# Altium integrated library halcyxn_integratedlibrary.IntLib: 157 symbols (part 2 of 7)
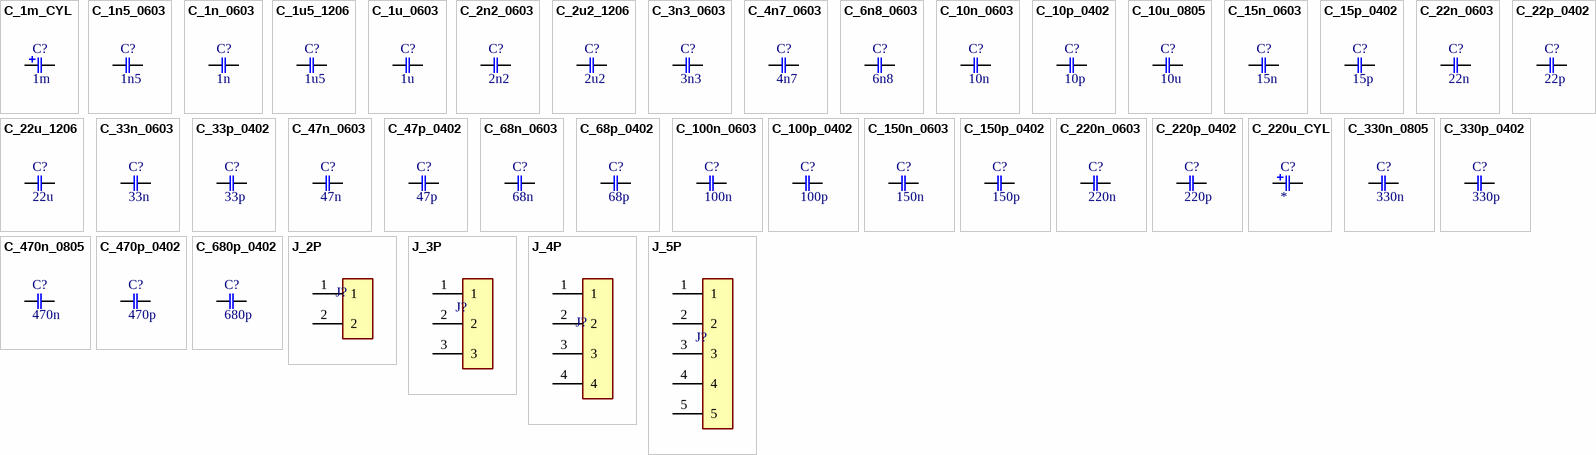
[diagram p4: symbols C_1m_CYL to J_5P]

## C_47p_0402
designator C?, comment 47p
Ceramic Capacitor, Multilayer, Ceramic, 50V, 5% +Tol, 5% -Tol, C0G, 30ppm/Cel TC, 0.000047uF, Surface Mount, 0402; Manufacturer: Murata; Manufacturer Part Number: GCM1555C1H470JA16J; Value: 47pF; Multilayer: Yes; Reference Standard: AEC-Q200; Supplier: Digikey; Supplier Part Number: 490-17752-1-ND; RoHS: Yes; Category: Ceramic Capacitors; Stock: 394056; Pricing: 1=0.1, 10=0.026, 50=0.0178, 100=0.0153, 500=0.01094, 1000=0.00958, 2500=0.00815, 5000=0.00728 (USD); Mounting Technology: Surface Mount; Pins: 2; Dielectric Material: Ceramic; Package Shape: Rectangular; Case/Package: 0402; Terminal Finish: Nickel; Min Operating Temperature: -55°C; Max Operating Temperature: 125°C; JESD-609 Code: e3; Capacitor Type: Ceramic; Tolerance  (fill in as +-): 5%; Package Style: SMTMeter; Packaging: Tape and Reel; Tolerance (fill in as +-): 5%; Rated DC Voltage (URdc): 50V; Temperature Characteristics Code: C0G; Termination: Wraparound; Length: 1mm; Width: 0.5mm; Height: 0.55mm; Reach SVHC Compliant: Yes; RoHS Compliant: Yes; ComponentLink1URL: https://datasheet.ciiva.com:443/pdfs/VipMasterIC/IC/MURE/MURE-S-A0004370842/MURE-S-A0004372084-1.pdf?src-supplier=IHS+Markit; ComponentLink1Description: https://datasheet.ciiva.com:443/pdfs/VipMasterIC/IC/MURE/MURE-S-A0004370842/MURE-S-A0004372084-1.pdf?src-supplier=IHS+Markit; ComponentLink2URL: http://www.mouser.com/ds/2/281/c03e-806517.pdf?src-supplier=Mouser; ComponentLink2Description: http://www.mouser.com/ds/2/281/c03e-806517.pdf?src-supplier=Mouser; ComponentLink3URL: http://www.murata.com/~/media/webrenewal/support/library/catalog/products/capacitor/mlcc/c03e.ashx?src-supplier=Digikey; ComponentLink3Description: http://www.murata.com/~/media/webrenewal/support/library/catalog/products/capacitor/mlcc/c03e.ashx?src-supplier=Digikey; ComponentLink4URL: http://psearch.en.murata.com/capacitor/product/GCM1555C1H470JA16%23.pdf?src-supplier=Avnet; ComponentLink4Description: http://psearch.en.murata.com/capacitor/product/GCM1555C1H470JA16%23.pdf?src-supplier=Avnet; ComponentLink5URL: https://search.murata.co.jp/Ceramy/image/img/A01X/G101/ENG/GCM1555C1H470JA16-01.pdf?src-supplier=Digikey; ComponentLink5Description: https://search.murata.co.jp/Ceramy/image/img/A01X/G101/ENG/GCM1555C1H470JA16-01.pdf?src-supplier=Digikey
footprint C_0402
pins: 1, 2

## C_68n_0603
designator C?, comment 68n
Ceramic Capacitor, Multilayer, Ceramic, 50V, 10% +Tol, 10% -Tol, X7R, 15% TC, 0.068uF, Surface Mount, 0603; Manufacturer: Murata; Manufacturer Part Number: GCM188R71H683KA57D; Value: 68nF; Multilayer: Yes; Reference Standard: AEC-Q200; Supplier: Digikey; Supplier Part Number: 490-8027-1-ND; RoHS: Yes; Category: Ceramic Capacitors; Stock: 276251; Pricing: 1=0.19, 10=0.11, 50=0.0782, 100=0.0683, 500=0.05172, 1000=0.04655 (USD); Mounting Technology: Surface Mount; Pins: 2; Dielectric Material: Ceramic; Package Shape: Rectangular; Case/Package: 0603; Terminal Finish: Nickel; Min Operating Temperature: -55°C; Max Operating Temperature: 125°C; JESD-609 Code: e3; Capacitor Type: Ceramic; Tolerance  (fill in as +-): 10%; Package Style: SMTMeter; Packaging: Tape and Reel; Tolerance (fill in as +-): 10%; Rated DC Voltage (URdc): 50V; Temperature Characteristics Code: X7R; Termination: Wraparound; Length: 1.6mm; Width: 0.8mm; Height: 0.9mm; Reach SVHC Compliant: Yes; RoHS Compliant: Yes; ComponentLink1URL: https://datasheet.ciiva.com:443/pdfs/VipMasterIC/IC/MURE/MURE-S-A0004362469/MURE-S-A0004362886-1.pdf?src-supplier=IHS+Markit; ComponentLink1Description: https://datasheet.ciiva.com:443/pdfs/VipMasterIC/IC/MURE/MURE-S-A0004362469/MURE-S-A0004362886-1.pdf?src-supplier=IHS+Markit; ComponentLink2URL: https://datasheet.ciiva.com/29542/s0717e-29542427.pdf?src-supplier=Digikey; ComponentLink2Description: https://datasheet.ciiva.com/29542/s0717e-29542427.pdf?src-supplier=Digikey; ComponentLink3URL: https://datasheet.ciiva.com/29542/s0717e-29542428.pdf?src-supplier=Digikey; ComponentLink3Description: https://datasheet.ciiva.com/29542/s0717e-29542428.pdf?src-supplier=Digikey; ComponentLink4URL: https://datasheet.ciiva.com/29542/s0717e-29542429.pdf?src-supplier=Digikey; ComponentLink4Description: https://datasheet.ciiva.com/29542/s0717e-29542429.pdf?src-supplier=Digikey
footprint C_0603
pins: 1, 2

## C_68p_0402
designator C?, comment 68p
Ceramic Capacitor, Multilayer, Ceramic, 50V, 5% +Tol, 5% -Tol, C0G, 30ppm/Cel TC, 0.000068uF, Surface Mount, 0402; Manufacturer: Murata; Manufacturer Part Number: GCM1555C1H680JA16J; Value: 68pF; Multilayer: Yes; Reference Standard: AEC-Q200; Supplier: Digikey; Supplier Part Number: 490-GCM1555C1H680JA16JCT-ND; RoHS: Yes; Category: Ceramic Capacitors; Stock: 101713; Pricing: 1=0.1, 10=0.034, 50=0.0232, 100=0.0198, 500=0.0141, 1000=0.01234, 2500=0.01046, 5000=0.00933 (USD); Mounting Technology: Surface Mount; Pins: 2; Dielectric Material: Ceramic; Package Shape: Rectangular; Case/Package: 0402; Terminal Finish: Nickel; Min Operating Temperature: -55°C; Max Operating Temperature: 125°C; JESD-609 Code: e3; Capacitor Type: Ceramic; Tolerance  (fill in as +-): 5%; Package Style: SMTMeter; Packaging: Tape and Reel; Tolerance (fill in as +-): 5%; Rated DC Voltage (URdc): 50V; Temperature Characteristics Code: C0G; Termination: Wraparound; Length: 1mm; Width: 0.5mm; Height: 0.55mm; Reach SVHC Compliant: Yes; RoHS Compliant: Yes; ComponentLink1URL: https://datasheet.ciiva.com:443/pdfs/VipMasterIC/IC/MURE/MURE-S-A0004370842/MURE-S-A0004372568-1.pdf?src-supplier=IHS+Markit; ComponentLink1Description: https://datasheet.ciiva.com:443/pdfs/VipMasterIC/IC/MURE/MURE-S-A0004370842/MURE-S-A0004372568-1.pdf?src-supplier=IHS+Markit; ComponentLink2URL: http://search.murata.co.jp/Ceramy/image/img/A01X/partnumbering_e_02.pdf?src-supplier=Digikey; ComponentLink2Description: http://search.murata.co.jp/Ceramy/image/img/A01X/partnumbering_e_02.pdf?src-supplier=Digikey
footprint C_0402
pins: 1, 2

## C_100n_0603
designator C?, comment 100n
Ceramic Capacitor, Multilayer, Ceramic, 50V, 10% +Tol, 10% -Tol, X7R, 15% TC, 0.1uF, Surface Mount, 0603; Manufacturer: Murata; Manufacturer Part Number: GCM188R71H104KA57D; Value: 100nF; Multilayer: Yes; Reference Standard: AEC-Q200; Supplier: Digikey; Supplier Part Number: 490-4779-1-ND; RoHS: Yes; Category: Ceramic Capacitors; Stock: 8963712; Pricing: 1=0.27, 10=0.155, 50=0.1104, 100=0.0965, 500=0.07296, 1000=0.06563 (USD); Mounting Technology: Surface Mount; Pins: 2; Dielectric Material: Ceramic; Package Shape: Rectangular; Case/Package: 0603; Terminal Finish: Nickel; Min Operating Temperature: -55°C; Max Operating Temperature: 125°C; JESD-609 Code: e3; Capacitor Type: Ceramic; Tolerance  (fill in as +-): 10%; Package Style: SMTMeter; Packaging: Tape and Reel; Tolerance (fill in as +-): 10%; Rated DC Voltage (URdc): 50V; Temperature Characteristics Code: X7R; Termination: Wraparound; Length: 1.6mm; Width: 0.8mm; Height: 0.9mm; Reach SVHC Compliant: Yes; RoHS Compliant: Yes; ComponentLink1URL: https://psearch.en.murata.com:443/capacitor/product/GCM188R71H104KA57%23.pdf?src-supplier=IHS+Markit; ComponentLink1Description: https://psearch.en.murata.com:443/capacitor/product/GCM188R71H104KA57%23.pdf?src-supplier=IHS+Markit; ComponentLink2URL: https://datasheet.ciiva.com/133/product-133574.pdf?src-supplier=Digikey; ComponentLink2Description: https://datasheet.ciiva.com/133/product-133574.pdf?src-supplier=Digikey; ComponentLink3URL: https://datasheet.ciiva.com/133/product-133575.pdf?src-supplier=Digikey; ComponentLink3Description: https://datasheet.ciiva.com/133/product-133575.pdf?src-supplier=Digikey; ComponentLink4URL: https://datasheet.ciiva.com/11786/0900766b80ef92d0-11786863.pdf?src-supplier=Rs; ComponentLink4Description: https://datasheet.ciiva.com/11786/0900766b80ef92d0-11786863.pdf?src-supplier=Rs; ComponentLink5URL: https://datasheet.ciiva.com/18183/getdatasheetpartid-98693-18183626.pdf?src-supplier=Verical; ComponentLink5Description: https://datasheet.ciiva.com/18183/getdatasheetpartid-98693-18183626.pdf?src-supplier=Verical; ComponentLink6URL: https://datasheet.ciiva.com/133/product-133573.pdf?src-supplier=Digikey; ComponentLink6Description: https://datasheet.ciiva.com/133/product-133573.pdf?src-supplier=Digikey; ComponentLink7URL: https://datasheet.ciiva.com/2989/product-2989242.pdf?src-supplier=Avnet; ComponentLink7Description: https://datasheet.ciiva.com/2989/product-2989242.pdf?src-supplier=Avnet; ComponentLink8URL: https://datasheet.ciiva.com/16497/product-16497247.pdf?src-supplier=Future+Electronics; ComponentLink8Description: https://datasheet.ciiva.com/16497/product-16497247.pdf?src-supplier=Future+Electronics
footprint C_0603
pins: 1, 2

## C_100p_0402
designator C?, comment 100p
Ceramic Capacitor, Multilayer, Ceramic, 50V, 5% +Tol, 5% -Tol, C0G, 30ppm/Cel TC, 0.0001uF, Surface Mount, 0402; Manufacturer: Murata; Manufacturer Part Number: GCM1555C1H101JA16J; Value: 100pF; Multilayer: Yes; Reference Standard: AEC-Q200; Supplier: Digikey; Supplier Part Number: 490-GCM1555C1H101JA16JCT-ND; RoHS: Yes; Category: Ceramic Capacitors; Stock: 465122; Pricing: 1=0.1, 10=0.034, 50=0.0232, 100=0.0198, 500=0.0141, 1000=0.01234, 2500=0.01046, 5000=0.00933 (USD); Mounting Technology: Surface Mount; Pins: 2; Dielectric Material: Ceramic; Package Shape: Rectangular; Case/Package: 0402; Terminal Finish: Nickel; Min Operating Temperature: -55°C; Max Operating Temperature: 125°C; JESD-609 Code: e3; Capacitor Type: Ceramic; Tolerance  (fill in as +-): 5%; Package Style: SMTMeter; Packaging: Tape and Reel; Tolerance (fill in as +-): 5%; Rated DC Voltage (URdc): 50V; Temperature Characteristics Code: C0G; Termination: Wraparound; Length: 1mm; Width: 0.5mm; Height: 0.55mm; Reach SVHC Compliant: Yes; RoHS Compliant: Yes; ComponentLink1URL: https://datasheet.ciiva.com:443/pdfs/VipMasterIC/IC/MURE/MURE-S-A0004370842/MURE-S-A0004372292-1.pdf?src-supplier=IHS+Markit; ComponentLink1Description: https://datasheet.ciiva.com:443/pdfs/VipMasterIC/IC/MURE/MURE-S-A0004370842/MURE-S-A0004372292-1.pdf?src-supplier=IHS+Markit; ComponentLink2URL: http://www.mouser.com/ds/2/281/c03e-806517.pdf?src-supplier=Mouser; ComponentLink2Description: http://www.mouser.com/ds/2/281/c03e-806517.pdf?src-supplier=Mouser; ComponentLink3URL: https://datasheet.octopart.com/GCM1555C1H101JA16J-Murata-datasheet-86813703.pdf?src-supplier=Future+Electronics; ComponentLink3Description: https://datasheet.octopart.com/GCM1555C1H101JA16J-Murata-datasheet-86813703.pdf?src-supplier=Future+Electronics; ComponentLink4URL: http://psearch.en.murata.com/capacitor/product/GCM1555C1H101JA16%23.pdf?src-supplier=Avnet; ComponentLink4Description: http://psearch.en.murata.com/capacitor/product/GCM1555C1H101JA16%23.pdf?src-supplier=Avnet; ComponentLink5URL: http://www.murata.com/~/media/webrenewal/support/library/catalog/products/capacitor/mlcc/c03e.ashx?src-supplier=Digikey; ComponentLink5Description: http://www.murata.com/~/media/webrenewal/support/library/catalog/products/capacitor/mlcc/c03e.ashx?src-supplier=Digikey
footprint C_0402
pins: 1, 2

## C_150n_0603
designator C?, comment 150n
Ceramic Capacitor, Multilayer, Ceramic, 50V, 10% +Tol, 10% -Tol, X7R, 15% TC, 0.15uF, Surface Mount, 0603; Manufacturer: Murata; Manufacturer Part Number: GCM188R71H154KA64D; Value: 150nF; Multilayer: Yes; Reference Standard: AEC-Q200; Supplier: Digikey; Supplier Part Number: 490-11960-1-ND; RoHS: Yes; Category: Ceramic Capacitors; Stock: 32537; Pricing: 1=0.19, 10=0.106, 50=0.0742, 100=0.0645, 500=0.048, 1000=0.04286 (USD); Mounting Technology: Surface Mount; Pins: 2; Dielectric Material: Ceramic; Package Shape: Rectangular; Case/Package: 0603; Terminal Finish: Nickel; Min Operating Temperature: -55°C; Max Operating Temperature: 125°C; JESD-609 Code: e3; Capacitor Type: Ceramic; Tolerance  (fill in as +-): 10%; Package Style: SMTMeter; Packaging: Tape and Reel; Tolerance (fill in as +-): 10%; Rated DC Voltage (URdc): 50V; Temperature Characteristics Code: X7R; Termination: Wraparound; Length: 1.6mm; Width: 0.8mm; Height: 0.9mm; Reach SVHC Compliant: Yes; RoHS Compliant: Yes; ComponentLink1URL: https://datasheet.ciiva.com:443/pdfs/VipMasterIC/IC/MURE/MURE-S-A0008911298/MURE-S-A0008911336-1.pdf?src-supplier=IHS+Markit; ComponentLink1Description: https://datasheet.ciiva.com:443/pdfs/VipMasterIC/IC/MURE/MURE-S-A0008911298/MURE-S-A0008911336-1.pdf?src-supplier=IHS+Markit; ComponentLink2URL: http://www.farnell.com/datasheets/2048405.pdf?src-supplier=Farnell; ComponentLink2Description: http://www.farnell.com/datasheets/2048405.pdf?src-supplier=Farnell; ComponentLink3URL: http://www.mouser.com/ds/2/281/c03e-806517.pdf?src-supplier=Mouser; ComponentLink3Description: http://www.mouser.com/ds/2/281/c03e-806517.pdf?src-supplier=Mouser; ComponentLink4URL: http://psearch.murata.com/capacitor/product/GCM188R71H154KA64%23.pdf?src-supplier=Avnet; ComponentLink4Description: http://psearch.murata.com/capacitor/product/GCM188R71H154KA64%23.pdf?src-supplier=Avnet; ComponentLink5URL: http://www.farnell.com/datasheets/1666664.pdf?src-supplier=Element14; ComponentLink5Description: http://www.farnell.com/datasheets/1666664.pdf?src-supplier=Element14; ComponentLink6URL: http://www.farnell.com/datasheets/2048405.pdf?src-supplier=Element14; ComponentLink6Description: http://www.farnell.com/datasheets/2048405.pdf?src-supplier=Element14; ComponentLink7URL: https://datasheet.octopart.com/GCM188R71H154KA64D-Murata-datasheet-149522680.pdf?src-supplier=Newark; ComponentLink7Description: https://datasheet.octopart.com/GCM188R71H154KA64D-Murata-datasheet-149522680.pdf?src-supplier=Newark; ComponentLink8URL: https://datasheet.octopart.com/GCM188R71H154KA64D-Murata-datasheet-12559435.pdf?src-supplier=Element14; ComponentLink8Description: https://datasheet.octopart.com/GCM188R71H154KA64D-Murata-datasheet-12559435.pdf?src-supplier=Element14; ComponentLink9URL: https://datasheet.octopart.com/GCM188R71H154KA64D-Murata-datasheet-62287434.pdf?src-supplier=Future+Electronics; ComponentLink9Description: https://datasheet.octopart.com/GCM188R71H154KA64D-Murata-datasheet-62287434.pdf?src-supplier=Future+Electronics; ComponentLink10URL: http://search.murata.co.jp/Ceramy/image/img/A01X/partnumbering_e_02.pdf?src-supplier=Digikey; ComponentLink10Description: http://search.murata.co.jp/Ceramy/image/img/A01X/partnumbering_e_02.pdf?src-supplier=Digikey; ComponentLink11URL: https://datasheet.octopart.com/GCM188R71H154KA64D-Murata-datasheet-12511495.pdf?src-supplier=TME; ComponentLink11Description: https://datasheet.octopart.com/GCM188R71H154KA64D-Murata-datasheet-12511495.pdf?src-supplier=TME
footprint C_0603
pins: 1, 2

## C_150p_0402
designator C?, comment 150p
Ceramic Capacitor, Multilayer, Ceramic, 50V, 5% +Tol, 5% -Tol, C0G, 30ppm/Cel TC, 0.00015uF, Surface Mount, 0402; Manufacturer: Murata; Manufacturer Part Number: GCM1555C1H151JA16J; Value: 150pF; Multilayer: Yes; Reference Standard: AEC-Q200; Supplier: Digikey; Supplier Part Number: 490-GCM1555C1H151JA16JCT-ND; RoHS: Yes; Category: Ceramic Capacitors; Stock: 465944; Pricing: 1=0.1, 10=0.034, 50=0.0232, 100=0.0198, 500=0.0141, 1000=0.01234, 2500=0.01046, 5000=0.00933 (USD); Mounting Technology: Surface Mount; Pins: 2; Dielectric Material: Ceramic; Package Shape: Rectangular; Case/Package: 0402; Terminal Finish: Nickel; Min Operating Temperature: -55°C; Max Operating Temperature: 125°C; JESD-609 Code: e3; Capacitor Type: Ceramic; Tolerance  (fill in as +-): 5%; Package Style: SMTMeter; Packaging: Tape and Reel; Tolerance (fill in as +-): 5%; Rated DC Voltage (URdc): 50V; Temperature Characteristics Code: C0G; Termination: Wraparound; Length: 1mm; Width: 0.5mm; Height: 0.55mm; Reach SVHC Compliant: Yes; RoHS Compliant: Yes; ComponentLink1URL: https://psearch.en.murata.com:443/capacitor/product/GCM1555C1H151JA16%23.pdf?src-supplier=IHS+Markit; ComponentLink1Description: https://psearch.en.murata.com:443/capacitor/product/GCM1555C1H151JA16%23.pdf?src-supplier=IHS+Markit; ComponentLink2URL: http://www.mouser.com/ds/2/281/c03e-806517.pdf?src-supplier=Mouser; ComponentLink2Description: http://www.mouser.com/ds/2/281/c03e-806517.pdf?src-supplier=Mouser; ComponentLink3URL: http://psearch.murata.com/capacitor/product/GCM1555C1H151JA16%23.pdf?src-supplier=Avnet; ComponentLink3Description: http://psearch.murata.com/capacitor/product/GCM1555C1H151JA16%23.pdf?src-supplier=Avnet; ComponentLink4URL: https://datasheet.octopart.com/GCM1555C1H151JA16J-Murata-datasheet-42223911.pdf?src-supplier=Future+Electronics; ComponentLink4Description: https://datasheet.octopart.com/GCM1555C1H151JA16J-Murata-datasheet-42223911.pdf?src-supplier=Future+Electronics
footprint C_0402
pins: 1, 2

## C_220n_0603
designator C?, comment 220n
Ceramic Capacitor, Multilayer, Ceramic, 50V, 10% +Tol, 10% -Tol, X7R, 15% TC, 0.22uF, Surface Mount, 0603; Manufacturer: Murata; Manufacturer Part Number: GCM188R71H224KA64D; Value: 220nF; Multilayer: Yes; Reference Standard: AEC-Q200; Supplier: Digikey; Supplier Part Number: 490-5402-1-ND; RoHS: Yes; Category: Ceramic Capacitors; Stock: 140400; Pricing: 1=0.17, 10=0.094, 50=0.0656, 100=0.0569, 500=0.04212, 1000=0.03753 (USD); Mounting Technology: Surface Mount; Pins: 2; Dielectric Material: Ceramic; Package Shape: Rectangular; Case/Package: 0603; Terminal Finish: Nickel; Min Operating Temperature: -55°C; Max Operating Temperature: 125°C; JESD-609 Code: e3; Capacitor Type: Ceramic; Tolerance  (fill in as +-): 10%; Package Style: SMTMeter; Packaging: Tape and Reel; Tolerance (fill in as +-): 10%; Rated DC Voltage (URdc): 50V; Temperature Characteristics Code: X7R; Termination: Wraparound; Length: 1.6mm; Width: 0.8mm; Height: 0.9mm; Reach SVHC Compliant: Yes; RoHS Compliant: Yes; ComponentLink1URL: https://psearch.en.murata.com:443/capacitor/product/GCM188R71H224KA64%23.pdf?src-supplier=IHS+Markit; ComponentLink1Description: https://psearch.en.murata.com:443/capacitor/product/GCM188R71H224KA64%23.pdf?src-supplier=IHS+Markit; ComponentLink2URL: https://datasheet.ciiva.com/136/s0717e-136042.pdf?src-supplier=Digikey; ComponentLink2Description: https://datasheet.ciiva.com/136/s0717e-136042.pdf?src-supplier=Digikey
footprint C_0603
pins: 1, 2

## C_220p_0402
designator C?, comment 220p
Ceramic Capacitor, Multilayer, Ceramic, 50V, 5% +Tol, 5% -Tol, C0G, 30ppm/Cel TC, 0.00022uF, Surface Mount, 0402; Manufacturer: Murata; Manufacturer Part Number: GCM1555C1H221JA16J; Value: 220pF; Multilayer: Yes; Reference Standard: AEC-Q200; Supplier: Digikey; Supplier Part Number: GCM1555C1H221JA16J-ND; RoHS: Yes; Category: Ceramic Capacitors; Pricing: 500000=0.00476 (USD); Mounting Technology: Surface Mount; Pins: 2; Dielectric Material: Ceramic; Package Shape: Rectangular; Case/Package: 0402; Terminal Finish: Nickel; Min Operating Temperature: -55°C; Max Operating Temperature: 125°C; JESD-609 Code: e3; Capacitor Type: Ceramic; Tolerance  (fill in as +-): 5%; Package Style: SMTMeter; Packaging: Tape and Reel; Tolerance (fill in as +-): 5%; Rated DC Voltage (URdc): 50V; Temperature Characteristics Code: C0G; Termination: Wraparound; Length: 1mm; Width: 0.5mm; Height: 0.55mm; Reach SVHC Compliant: Yes; RoHS Compliant: Yes; ComponentLink1URL: https://datasheet.ciiva.com:443/pdfs/VipMasterIC/IC/MURE/MURE-S-A0004370842/MURE-S-A0004372702-1.pdf?src-supplier=IHS+Markit; ComponentLink1Description: https://datasheet.ciiva.com:443/pdfs/VipMasterIC/IC/MURE/MURE-S-A0004370842/MURE-S-A0004372702-1.pdf?src-supplier=IHS+Markit; ComponentLink2URL: https://datasheet.ciiva.com/11605/product-11605132.pdf?src-supplier=Avnet; ComponentLink2Description: https://datasheet.ciiva.com/11605/product-11605132.pdf?src-supplier=Avnet
footprint C_0402
pins: 1, 2

## C_220u_CYL
designator C?
Aluminum Electrolytic Capacitor, Polarized, Aluminum (solid Polymer), 10V, 20% +Tol, 20% -Tol, 220uF, Surface Mount, 2626; Manufacturer: Wurth Electronics; Manufacturer Part Number: 875105244013; Dielectric Material: Aluminium; ESR (Equivalent Series Resistance): 30mR; Leakage Current: 300uA; Ripple Current: 98.5mA; Tan Delta: 0.08; Supplier: Digikey; Supplier Part Number: 732-6413-1-ND; RoHS: Yes; Category: Polymer Capacitors; Stock: 8825; Pricing: 1=0.7, 50=0.599, 100=0.522, 250=0.464, 500=0.406 (USD); Mounting Technology: Surface Mount; Pins: 2; Package Shape: Cylindrical; Case/Package: 2626; Terminal Finish: Tin; Min Operating Temperature: -55°C; Max Operating Temperature: 105°C; JESD-609 Code: e3; Polarity: Polarized; Value: 220uF; Capacitor Type: Aluminium; Tolerance  (fill in as +-): 20%; Packaging: Tape and Reel; Tolerance (fill in as +-): 20%; Rated DC Voltage (URdc): 10V; Termination: Flat; Reach SVHC Compliant: Yes; RoHS Compliant: Yes; ComponentLink1URL: https://datasheet.ciiva.com:443/pdfs/VipMasterIC/IC/MIDC/MIDC-S-A0000766074/MIDC-S-A0000769314-1.pdf?src-supplier=IHS+Markit; ComponentLink1Description: https://datasheet.ciiva.com:443/pdfs/VipMasterIC/IC/MIDC/MIDC-S-A0000766074/MIDC-S-A0000769314-1.pdf?src-supplier=IHS+Markit; ComponentLink2URL: http://www.farnell.com/datasheets/1880494.pdf?src-supplier=Farnell; ComponentLink2Description: http://www.farnell.com/datasheets/1880494.pdf?src-supplier=Farnell; ComponentLink3URL: https://katalog.we-online.de/pbs/datasheet/875105244013.pdf?src-supplier=Digikey; ComponentLink3Description: https://katalog.we-online.de/pbs/datasheet/875105244013.pdf?src-supplier=Digikey; ComponentLink4URL: http://katalog.we-online.de/pbs/datasheet/875105244013.pdf?src-supplier=Digikey; ComponentLink4Description: http://katalog.we-online.de/pbs/datasheet/875105244013.pdf?src-supplier=Digikey; ComponentLink5URL: http://www.farnell.com/datasheets/1880494.pdf?src-supplier=Newark; ComponentLink5Description: http://www.farnell.com/datasheets/1880494.pdf?src-supplier=Newark; ComponentLink6URL: http://www.farnell.com/datasheets/1880494.pdf?src-supplier=Element14; ComponentLink6Description: http://www.farnell.com/datasheets/1880494.pdf?src-supplier=Element14
footprint C_CYL_SMD
pins: 1, 2

## C_330n_0805
designator C?, comment 330n
Ceramic Capacitor, Multilayer, Ceramic, 50V, 10% +Tol, 10% -Tol, X7R, 15% TC, 0.33uF, Surface Mount, 0805; Manufacturer: Murata; Manufacturer Part Number: GCM219R71H334KA55D; Value: 330nF; Multilayer: Yes; Reference Standard: AEC-Q200; Supplier: Digikey; Supplier Part Number: 490-8045-1-ND; RoHS: Yes; Category: Ceramic Capacitors; Stock: 23396; Pricing: 1=0.33, 10=0.194, 50=0.1394, 100=0.1224, 500=0.09344, 1000=0.08441 (USD); Mounting Technology: Surface Mount; Pins: 2; Dielectric Material: Ceramic; Package Shape: Rectangular; Case/Package: 0805; Terminal Finish: Nickel; Min Operating Temperature: -55°C; Max Operating Temperature: 125°C; JESD-609 Code: e3; Capacitor Type: Ceramic; Tolerance  (fill in as +-): 10%; Package Style: SMTMeter; Packaging: Tape and Reel; Tolerance (fill in as +-): 10%; Rated DC Voltage (URdc): 50V; Temperature Characteristics Code: X7R; Termination: Wraparound; Length: 2mm; Width: 1.25mm; Height: 0.95mm; Reach SVHC Compliant: Yes; RoHS Compliant: Yes; ComponentLink1URL: https://datasheet.ciiva.com:443/pdfs/VipMasterIC/IC/MURE/MURE-S-A0004423395/MURE-S-A0004426889-1.pdf?src-supplier=IHS+Markit; ComponentLink1Description: https://datasheet.ciiva.com:443/pdfs/VipMasterIC/IC/MURE/MURE-S-A0004423395/MURE-S-A0004426889-1.pdf?src-supplier=IHS+Markit; ComponentLink2URL: https://datasheet.ciiva.com/11619/product-11619093.pdf?src-supplier=Avnet; ComponentLink2Description: https://datasheet.ciiva.com/11619/product-11619093.pdf?src-supplier=Avnet
footprint C_0805
pins: 1, 2

## C_330p_0402
designator C?, comment 330p
Ceramic Capacitor, Multilayer, Ceramic, 50V, 5% +Tol, 5% -Tol, C0G, 30ppm/Cel TC, 0.00033uF, Surface Mount, 0402; Manufacturer: Murata; Manufacturer Part Number: GCM1555C1H331JA16J; Value: 330pF; Multilayer: Yes; Reference Standard: AEC-Q200; Supplier: Digikey; Supplier Part Number: 490-GCM1555C1H331JA16JCT-ND; RoHS: Yes; Category: Ceramic Capacitors; Stock: 214680; Pricing: 1=0.1, 10=0.043, 50=0.0296, 100=0.0254, 500=0.01824, 1000=0.01602, 2500=0.01366, 5000=0.01224 (USD); Mounting Technology: Surface Mount; Pins: 2; Dielectric Material: Ceramic; Package Shape: Rectangular; Case/Package: 0402; Terminal Finish: Nickel; Min Operating Temperature: -55°C; Max Operating Temperature: 125°C; JESD-609 Code: e3; Capacitor Type: Ceramic; Tolerance  (fill in as +-): 5%; Package Style: SMTMeter; Packaging: Tape and Reel; Tolerance (fill in as +-): 5%; Rated DC Voltage (URdc): 50V; Temperature Characteristics Code: C0G; Termination: Wraparound; Length: 1mm; Width: 0.5mm; Height: 0.55mm; Reach SVHC Compliant: Yes; RoHS Compliant: Yes; ComponentLink1URL: https://psearch.en.murata.com:443/capacitor/product/GCM1555C1H331JA16%23.pdf?src-supplier=IHS+Markit; ComponentLink1Description: https://psearch.en.murata.com:443/capacitor/product/GCM1555C1H331JA16%23.pdf?src-supplier=IHS+Markit; ComponentLink2URL: https://datasheet.ciiva.com/11604/product-11604906.pdf?src-supplier=Avnet; ComponentLink2Description: https://datasheet.ciiva.com/11604/product-11604906.pdf?src-supplier=Avnet
footprint C_0402
pins: 1, 2

## C_470n_0805
designator C?, comment 470n
Ceramic Capacitor, Multilayer, Ceramic, 50V, 10% +Tol, 10% -Tol, X7R, 15% TC, 0.47uF, Surface Mount, 0805; Manufacturer: Murata; Manufacturer Part Number: GCM21BR71H474KA55K; Value: 470nF; Multilayer: Yes; Reference Standard: AEC-Q200; Supplier: Digikey; Supplier Part Number: 490-11164-1-ND; RoHS: Yes; Category: Ceramic Capacitors; Stock: 102802; Pricing: 1=0.18, 10=0.103, 50=0.073, 100=0.0638, 500=0.04814, 1000=0.04327, 2500=0.0381, 5000=0.03497 (USD); Mounting Technology: Surface Mount; Pins: 2; Dielectric Material: Ceramic; Package Shape: Rectangular; Case/Package: 0805; Terminal Finish: Nickel; Min Operating Temperature: -55°C; Max Operating Temperature: 125°C; JESD-609 Code: e3; Capacitor Type: Ceramic; Tolerance  (fill in as +-): 10%; Package Style: SMTMeter; Packaging: Tape and Reel; Tolerance (fill in as +-): 10%; Rated DC Voltage (URdc): 50V; Temperature Characteristics Code: X7R; Termination: Wraparound; Length: 2mm; Width: 1.25mm; Height: 1.4mm; Reach SVHC Compliant: Yes; RoHS Compliant: Yes; ComponentLink1URL: https://datasheet.ciiva.com:443/pdfs/VipMasterIC/IC/MURE/MURE-S-A0004442191/MURE-S-A0004445177-1.pdf?src-supplier=IHS+Markit; ComponentLink1Description: https://datasheet.ciiva.com:443/pdfs/VipMasterIC/IC/MURE/MURE-S-A0004442191/MURE-S-A0004445177-1.pdf?src-supplier=IHS+Markit; ComponentLink2URL: https://datasheet.ciiva.com/11673/product-11673422.pdf?src-supplier=Avnet; ComponentLink2Description: https://datasheet.ciiva.com/11673/product-11673422.pdf?src-supplier=Avnet; ComponentLink3URL: https://datasheet.ciiva.com/171/product-171550.pdf?src-supplier=Digikey; ComponentLink3Description: https://datasheet.ciiva.com/171/product-171550.pdf?src-supplier=Digikey
footprint C_0805
pins: 1, 2

## C_470p_0402
designator C?, comment 470p
Ceramic Capacitor, Multilayer, Ceramic, 50V, 5% +Tol, 5% -Tol, C0G, 30ppm/Cel TC, 0.00047uF, Surface Mount, 0402; Manufacturer: Murata; Manufacturer Part Number: GCM1555C1H471JA16J; Value: 470pF; Multilayer: Yes; Reference Standard: AEC-Q200; Supplier: Digikey; Supplier Part Number: 490-GCM1555C1H471JA16JCT-ND; RoHS: Yes; Category: Ceramic Capacitors; Stock: 83422; Pricing: 1=0.1, 10=0.04, 50=0.0274, 100=0.0234, 500=0.01676, 1000=0.01469, 2500=0.01251, 5000=0.01119 (USD); Mounting Technology: Surface Mount; Pins: 2; Dielectric Material: Ceramic; Package Shape: Rectangular; Case/Package: 0402; Terminal Finish: Nickel; Min Operating Temperature: -55°C; Max Operating Temperature: 125°C; JESD-609 Code: e3; Capacitor Type: Ceramic; Tolerance  (fill in as +-): 5%; Package Style: SMTMeter; Packaging: Tape and Reel; Tolerance (fill in as +-): 5%; Rated DC Voltage (URdc): 50V; Temperature Characteristics Code: C0G; Termination: Wraparound; Length: 1mm; Width: 0.5mm; Height: 0.55mm; Reach SVHC Compliant: Yes; RoHS Compliant: Yes; ComponentLink1URL: https://psearch.en.murata.com:443/capacitor/product/GCM1555C1H471JA16%23.pdf?src-supplier=IHS+Markit; ComponentLink1Description: https://psearch.en.murata.com:443/capacitor/product/GCM1555C1H471JA16%23.pdf?src-supplier=IHS+Markit; ComponentLink2URL: https://datasheet.ciiva.com/11604/product-11604534.pdf?src-supplier=Avnet; ComponentLink2Description: https://datasheet.ciiva.com/11604/product-11604534.pdf?src-supplier=Avnet
footprint C_0402
pins: 1, 2

## C_680p_0402
designator C?, comment 680p
Ceramic Capacitor, Multilayer, Ceramic, 50V, 5% +Tol, 5% -Tol, C0G, 30ppm/Cel TC, 0.00068uF, Surface Mount, 0402; Manufacturer: Murata; Manufacturer Part Number: GCM1555C1H681JA16J; Value: 680pF; Multilayer: Yes; Reference Standard: AEC-Q200; Supplier: Digikey; Supplier Part Number: 490-GCM1555C1H681JA16JTR-ND; RoHS: Yes; Category: Ceramic Capacitors; Pricing: 50000=0.00648 (USD); Mounting Technology: Surface Mount; Pins: 2; Dielectric Material: Ceramic; Package Shape: Rectangular; Case/Package: 0402; Terminal Finish: Nickel; Min Operating Temperature: -55°C; Max Operating Temperature: 125°C; JESD-609 Code: e3; Capacitor Type: Ceramic; Tolerance  (fill in as +-): 5%; Packaging: Tape and Reel; Tolerance (fill in as +-): 5%; Rated DC Voltage (URdc): 50V; Temperature Characteristics Code: C0G; Termination: Wraparound; Reach SVHC Compliant: Yes; RoHS Compliant: Yes; ComponentLink1URL: https://psearch.en.murata.com:443/capacitor/product/GCM1555C1H681JA16%23.pdf?src-supplier=IHS+Markit; ComponentLink1Description: https://psearch.en.murata.com:443/capacitor/product/GCM1555C1H681JA16%23.pdf?src-supplier=IHS+Markit
footprint C_0402
pins: 1, 2

## J_2P
designator J?  (value not drawn)
2-pin Dupont header; MP: M20-9990245; Package: None; Price: None; Value: *; Availability: Unavailable
footprint J_2P (2-pin Dupont header)
pins: 1, 2

## J_3P
designator J?  (value not drawn)
3-pin Dupont header; MP: M20-9990245; Package: None; Price: None; Value: *; Availability: Unavailable
footprint J_3P (3-pin Dupont header)
pins: 1, 2, 3

## J_4P
designator J?  (value not drawn)
4-pin Dupont header; MP: M20-9990245; Package: None; Price: None; Value: *; Availability: Unavailable
footprint J_4P (4-pin Dupont header)
pins: 1, 2, 3, 4

## J_5P
designator J?  (value not drawn)
5-pin Dupont header; MP: M20-9990245; Package: None; Price: None; Value: *; Availability: Unavailable
footprint J_5P (5-pin Dupont header)
pins: 1, 2, 3, 4, 5

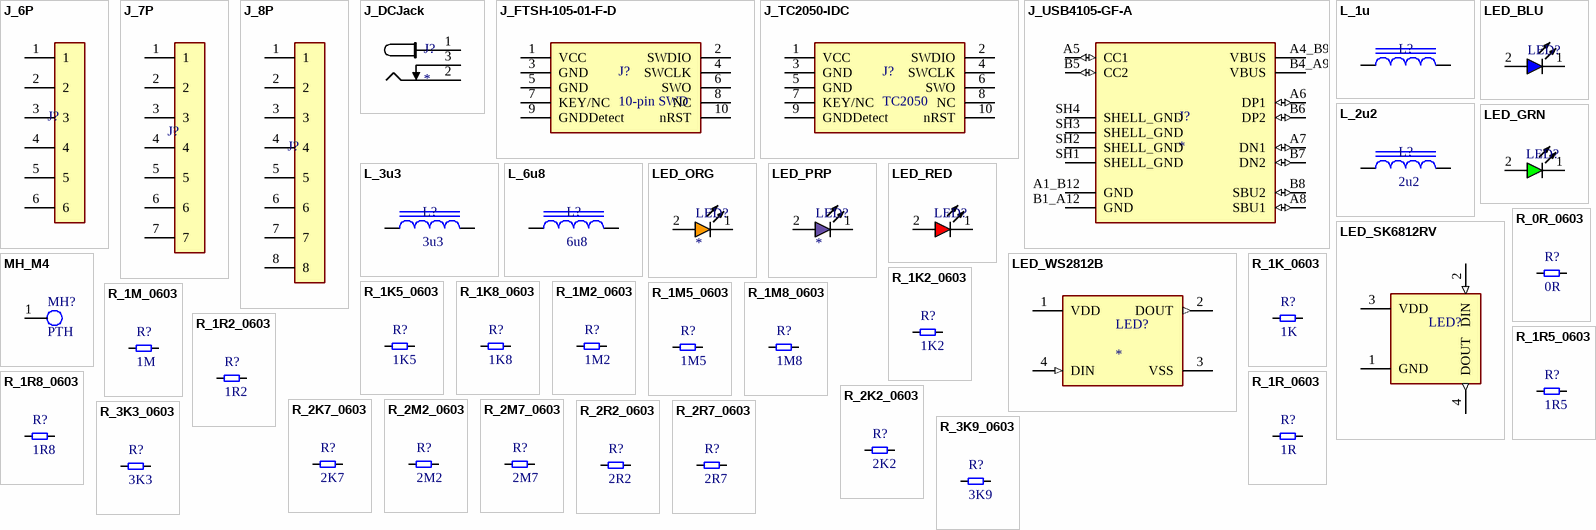
[diagram p1: symbols J_6P to R_3K9_0603]

## J_6P
designator J?  (value not drawn)
6-pin Dupont header; MP: M20-9990245; Package: None; Price: None; Value: *; Availability: Unavailable
footprint J_6P (6-pin Dupont header)
pins: 1, 2, 3, 4, 5, 6

## J_7P
designator J?  (value not drawn)
7-pin Dupont header; MP: M20-9990245; Package: None; Price: None; Value: *; Availability: Unavailable
footprint J_7P (7-pin Dupont header)
pins: 1, 2, 3, 4, 5, 6, 7

## J_8P
designator J?  (value not drawn)
8-pin Dupont header; MP: M20-9990245; Package: None; Price: None; Value: *; Availability: Unavailable
footprint J_8P (8-pin Dupont header)
pins: 1, 2, 3, 4, 5, 6, 7, 8

## J_DCJack
designator J?
CIRCULAR DC POWER CONNECTOR; Manufacturer: Global Connector Technology; Manufacturer Part Number: DCJ200-10-A-K1-K; Connector Type: Circular,Power; Supplier: Digikey; Supplier Part Number: 2073-DCJ200-10-A-K1-K-ND; RoHS: Yes; Category: Connectors; Stock: 7757; Pricing: 1=0.72, 10=0.61, 25=0.5716, 50=0.5444, 100=0.5184, 250=0.48588, 500=0.46266, 1000=0.44056, 2500=0.41298 (USD); Contact Finish - Mating: NOT SPECIFIED; Reach SVHC Compliant: Yes; RoHS Compliant: Yes; ComponentLink1URL: https://datasheet.ciiva.com:443/pdfs/VipMasterIC/IC/GCTI/GCTI-S-A0001311865/GCTI-S-A0001311865-1.pdf?src-supplier=IHS+Markit; ComponentLink1Description: https://datasheet.ciiva.com:443/pdfs/VipMasterIC/IC/GCTI/GCTI-S-A0001311865/GCTI-S-A0001311865-1.pdf?src-supplier=IHS+Markit; ComponentLink2URL: https://datasheet.octopart.com/DCJ200-10-A-K1-K-Global-Connector-Technology-datasheet-91940686.pdf?src-supplier=Farnell; ComponentLink2Description: https://datasheet.octopart.com/DCJ200-10-A-K1-K-Global-Connector-Technology-datasheet-91940686.pdf?src-supplier=Farnell; ComponentLink3URL: https://gct.co/files/drawings/dcj200-10.pdf?src-supplier=Digikey; ComponentLink3Description: https://gct.co/files/drawings/dcj200-10.pdf?src-supplier=Digikey; ComponentLink4URL: https://datasheet.octopart.com/DCJ200-10-A-K1-K-Global-Connector-Technology-datasheet-62069292.pdf?src-supplier=Element14; ComponentLink4Description: https://datasheet.octopart.com/DCJ200-10-A-K1-K-Global-Connector-Technology-datasheet-62069292.pdf?src-supplier=Element14; ComponentLink5URL: https://datasheet.octopart.com/DCJ200-10-A-K1-K-Global-Connector-Technology-datasheet-77992270.pdf?src-supplier=Future+Electronics; ComponentLink5Description: https://datasheet.octopart.com/DCJ200-10-A-K1-K-Global-Connector-Technology-datasheet-77992270.pdf?src-supplier=Future+Electronics
footprint J_DCJack (Circular DC Barrel Jack socket, 3-pin)
pins: 1, 2, 3

## J_FTSH-105-01-F-D
designator J?, comment 10-pin SWD
Board Connector, 10 Contact(s), 2 Row(s), Male, Straight, 0.05 inch Pitch, Solder Terminal, Locking, Receptacle; Manufacturer: Samtec; Manufacturer Part Number: FTSH-105-01-F-D; Option: General Purpose; Contact Pattern: RECTANGULAR; Contact Style: SQ PIN-SKT; Filter Feature: No; Mating Information: MULTIPLE MATING PARTS AVAILABLE; Number Of Connectors: 1; Number Of PCB Rows: 2; Number of Contacts: 10; Body Breadth: 0.135inch; Body Depth: 0.099inch; Body Length: 0.247inch; PCB Contact Row Spacing: 1.27mm; Plating Thickness: 3uin; Reference Standard: UL; Reliability: COMMERCIAL; Supplier: Digikey; Supplier Part Number: SAM9430-ND; RoHS: Yes; Category: Connectors; Stock: 772; Pricing: 1=0.94, 250=0.86, 500=0.81, 1000=0.73, 2500=0.61, 5000=0.5, 10000=0.44386 (USD); Mounting Technology: Board; Contact Material: Bronze; Contact Finish - Mating: GOLD FLASH OVER NICKEL (50); Contact Finish - Termination: Matte Tin (Sn) - with Nickel (Ni) barrier; Insulation Material: Polymer; Connector Type: BOARD CONNECTOR; JESD-609 Code: e3; Body/Shell Style: RECEPTACLE; Contact Gender: Male; Mixed Contacts: No; Mounting Style: STRAIGHT; Number of Rows Loaded: 2; PCB Contact Pattern: RECTANGULAR; Termination: Solder; Mating Contact Pitch: 0.05inch; Mating Contact Row Spacing: 0.05inch; Mounting Option 1: LOCKING; Terminal Length: 0.09inch; Terminal Pitch: 1.27mm; Flammability Rating: UL94 V-0; Reach SVHC Compliant: Yes; RoHS Compliant: Yes; DIN Conformance: No; IEC Conformance: No; MIL Conformance: No; ComponentLink1URL: https://datasheet.ciiva.com:443/pdfs/VipMasterIC/IC/SAMI/SAMI-S-A0003019604/SAMI-S-A0003019604-1.pdf?src-supplier=IHS+Markit; ComponentLink1Description: https://datasheet.ciiva.com:443/pdfs/VipMasterIC/IC/SAMI/SAMI-S-A0003019604/SAMI-S-A0003019604-1.pdf?src-supplier=IHS+Markit; ComponentLink2URL: https://datasheet.ciiva.com/36534/138ftsh-th-36534437.pdf?src-supplier=Onlinecomponents.com; ComponentLink2Description: https://datasheet.ciiva.com/36534/138ftsh-th-36534437.pdf?src-supplier=Onlinecomponents.com
footprint J_SAMTEC_FTSH-105-01-F-D
pins: 1 VCC, 2 SWDIO, 3 GND, 4 SWCLK, 5 GND, 6 SWO, 7 KEY/NC, 8 NC, 9 GNDDetect, 10 nRST

## J_TC2050-IDC
designator J?, comment TC2050
footprint J_TC2050-IDC-NL
pins: 1 VCC, 2 SWDIO, 3 GND, 4 SWCLK, 5 GND, 6 SWO, 7 KEY/NC, 8 NC, 9 GNDDetect, 10 nRST

## J_USB4105-GF-A
designator J?
Conn USB 2.0 Type C RCP 24 POS 0.3mm/0.5mm Solder RA SMD 24 Terminal 1 Port T/R; Manufacturer: Global Connector Technology; Manufacturer Part Number: USB4105-GF-A; Supplier: Digikey; Supplier Part Number: 2073-USB4105-GF-ACT-ND; RoHS: No; Category: USB Connectors; Stock: 34392; Pricing: 1=1.04, 10=0.789, 25=0.7096, 50=0.6552, 100=0.6057, 250=0.54704, 800=0.48259, 1600=0.44889, 2400=0.43066, 4000=0.40915, 5600=0.39582, 8000=0.38239, 20000=0.3575 (USD); ComponentLink1URL: https://gct.co/files/drawings/usb4105.pdf?src-supplier=Digikey; ComponentLink1Description: https://gct.co/files/drawings/usb4105.pdf?src-supplier=Digikey
footprint J_USB4105-GF-A
pins: A1_B12 GND (power), A4_B9 VBUS (power), A5 CC1 (io), A6 DP1 (io), A7 DN1 (io), A8 SBU1 (io), B1_A12 GND (power), B4_A9 VBUS (power), B5 CC2 (io), B6 DP2 (io), B7 DN2 (io), B8 SBU2 (io), SH1 SHELL_GND (power), SH2 SHELL_GND (power), SH3 SHELL_GND (power), SH4 SHELL_GND (power)

## L_1u
designator L?, comment 1u  (value not drawn)
General Purpose Inductor, 1uH, 20%, 1 Element, Metal Alloy-Core, SMD, 1008; Manufacturer: Murata; Manufacturer Part Number: DFE252012P-1R0M=P2; Channels: 1; DC Resistance (DCR): 42mR; Max Current Rating: 3.2A; Shape/Size Description: RECTANGULAR PACKAGE; Shielding: Shielded; Test Frequency: 1MHz; Supplier: Digikey; Supplier Part Number: 490-10647-1-ND; RoHS: Yes; Category: Fixed Inductors; Stock: 253924; Pricing: 1=0.28, 10=0.215, 25=0.1944, 50=0.18, 100=0.1668, 250=0.15084, 500=0.13976, 1000=0.12946, 3000=0.11462, 6000=0.1061, 9000=0.1014, 15000=0.09576, 21000=0.09221, 30000=0.08857, 75000=0.085 (USD); Pins: 2; Core Material: Metal; Min Operating Temperature: -40°C; Max Operating Temperature: 125°C; Tolerance: 20%; Surface Mount: Yes; Inductance-Nom (L): 1uH; Inductor Type: GENERAL PURPOSE INDUCTOR; Terminal Placement: Dual Ended; Termination: Wraparound; RoHS Compliant: Yes; Reach SVHC Compliant: Yes; ComponentLink1URL: https://psearch.en.murata.com:443/inductor/product/DFE252012P-1R0M_.pdf?src-supplier=IHS+Markit; ComponentLink1Description: https://psearch.en.murata.com:443/inductor/product/DFE252012P-1R0M_.pdf?src-supplier=IHS+Markit; ComponentLink2URL: http://www.farnell.com/datasheets/2550134.pdf?src-supplier=Farnell; ComponentLink2Description: http://www.farnell.com/datasheets/2550134.pdf?src-supplier=Farnell; ComponentLink3URL: https://www.murata.com/~/media/webrenewal/products/inductor/chip/tokoproducts/wirewoundmetalalloychiptype/m_dfe252012p.ashx?src-supplier=Digikey; ComponentLink3Description: https://www.murata.com/~/media/webrenewal/products/inductor/chip/tokoproducts/wirewoundmetalalloychiptype/m_dfe252012p.ashx?src-supplier=Digikey; ComponentLink4URL: http://www.murata.com/~/media/webrenewal/products/inductor/chip/tokoproducts/wirewoundmetalalloychiptype/m_dfe252012p.ashx?src-supplier=Digikey; ComponentLink4Description: http://www.murata.com/~/media/webrenewal/products/inductor/chip/tokoproducts/wirewoundmetalalloychiptype/m_dfe252012p.ashx?src-supplier=Digikey; ComponentLink5URL: http://www.toko.co.jp/products/pdf/inductors/dfe252012p.pdf?src-supplier=Avnet; ComponentLink5Description: http://www.toko.co.jp/products/pdf/inductors/dfe252012p.pdf?src-supplier=Avnet; ComponentLink6URL: https://datasheet.octopart.com/DFE252012P-1R0M%3DP2-Murata-datasheet-62290040.pdf?src-supplier=Element14; ComponentLink6Description: https://datasheet.octopart.com/DFE252012P-1R0M%3DP2-Murata-datasheet-62290040.pdf?src-supplier=Element14; ComponentLink7URL: https://datasheet.octopart.com/DFE252012P-1R0M%3DP2-Murata-datasheet-44382719.pdf?src-supplier=Future+Electronics; ComponentLink7Description: https://datasheet.octopart.com/DFE252012P-1R0M%3DP2-Murata-datasheet-44382719.pdf?src-supplier=Future+Electronics; ComponentLink8URL: https://datasheet.octopart.com/DFE252012P-1R0M%3DP2-Murata-datasheet-142295878.pdf?src-supplier=Arrow.cn; ComponentLink8Description: https://datasheet.octopart.com/DFE252012P-1R0M%3DP2-Murata-datasheet-142295878.pdf?src-supplier=Arrow.cn; ComponentLink9Description: JLCPCB Part Link; ComponentLink9URL: https://jlcpcb.com/partdetail/MurataElectronics-DFE252012P_1R0MP2/C882955
footprint L_1008
pins: 1, 2

## L_2u2
designator L?, comment 2u2
General Purpose Inductor, 2.2uH, 20%, 1 Element, Metal Alloy-Core, SMD, 1008; Manufacturer: Murata; Manufacturer Part Number: DFE252012P-2R2M=P2; DC Resistance (DCR): 84mR; Channels: 1; Max Current Rating: 2.2A; Shape/Size Description: RECTANGULAR PACKAGE; Shielding: Shielded; Test Frequency: 1MHz; Supplier: Digikey; Supplier Part Number: 490-10649-1-ND; RoHS: Yes; Category: Fixed Inductors; Stock: 83437; Pricing: 1=0.22, 10=0.18, 100=0.1483, 1000=0.12196 (USD); Pins: 2; Core Material: Metal; Min Operating Temperature: -40°C; Max Operating Temperature: 125°C; Tolerance: 20%; Inductance-Nom (L): 2.2uH; Inductor Type: GENERAL PURPOSE INDUCTOR; Surface Mount: Yes; Terminal Placement: Dual Ended; Termination: Wraparound; Reach SVHC Compliant: Yes; RoHS Compliant: Yes; ComponentLink1URL: https://psearch.en.murata.com:443/inductor/product/DFE252012P-2R2M_.pdf?src-supplier=IHS+Markit; ComponentLink1Description: https://psearch.en.murata.com:443/inductor/product/DFE252012P-2R2M_.pdf?src-supplier=IHS+Markit; ComponentLink2URL: http://www.farnell.com/datasheets/2550136.pdf?src-supplier=Farnell; ComponentLink2Description: http://www.farnell.com/datasheets/2550136.pdf?src-supplier=Farnell; ComponentLink3URL: https://www.murata.com/~/media/webrenewal/products/inductor/chip/tokoproducts/wirewoundmetalalloychiptype/m_dfe252012p.ashx?src-supplier=Digikey; ComponentLink3Description: https://www.murata.com/~/media/webrenewal/products/inductor/chip/tokoproducts/wirewoundmetalalloychiptype/m_dfe252012p.ashx?src-supplier=Digikey; ComponentLink4URL: http://www.farnell.com/datasheets/2550136.pdf?src-supplier=Newark; ComponentLink4Description: http://www.farnell.com/datasheets/2550136.pdf?src-supplier=Newark; ComponentLink5URL: http://www.toko.co.jp/products/pdf/inductors/dfe252012p.pdf?src-supplier=Avnet; ComponentLink5Description: http://www.toko.co.jp/products/pdf/inductors/dfe252012p.pdf?src-supplier=Avnet; ComponentLink6URL: https://datasheet.octopart.com/DFE252012P-2R2M%3DP2-Murata-datasheet-62290040.pdf?src-supplier=Element14; ComponentLink6Description: https://datasheet.octopart.com/DFE252012P-2R2M%3DP2-Murata-datasheet-62290040.pdf?src-supplier=Element14; ComponentLink7URL: https://datasheet.octopart.com/DFE252012P-2R2M%3DP2-Murata-datasheet-67471316.pdf?src-supplier=Future+Electronics; ComponentLink7Description: https://datasheet.octopart.com/DFE252012P-2R2M%3DP2-Murata-datasheet-67471316.pdf?src-supplier=Future+Electronics; ComponentLink8URL: https://datasheet.octopart.com/DFE252012P-2R2M%3DP2-Murata-datasheet-142045613.pdf?src-supplier=Arrow.cn; ComponentLink8Description: https://datasheet.octopart.com/DFE252012P-2R2M%3DP2-Murata-datasheet-142045613.pdf?src-supplier=Arrow.cn
footprint L_1008
pins: 1, 2

## L_3u3
designator L?, comment 3u3
General Purpose Inductor, 3.3uH, 20%, 1 Element, Metal Alloy-Core, SMD, 1008; Manufacturer: Murata; Manufacturer Part Number: DFE252012P-3R3M=P2; DC Resistance (DCR): 140mR; Channels: 1; Max Current Rating: 1.7A; Shape/Size Description: RECTANGULAR PACKAGE; Shielding: Shielded; Test Frequency: 1MHz; Supplier: Digikey; Supplier Part Number: 490-10650-1-ND; RoHS: Yes; Category: Fixed Inductors; Stock: 25811; Pricing: 1=0.28, 10=0.215, 25=0.1944, 50=0.18, 100=0.1668, 250=0.15084, 500=0.13976, 1000=0.12946 (USD); Pins: 2; Core Material: Metal; Min Operating Temperature: -40°C; Max Operating Temperature: 125°C; Tolerance: 20%; Inductance-Nom (L): 3.3uH; Inductor Type: GENERAL PURPOSE INDUCTOR; Surface Mount: Yes; Terminal Placement: Dual Ended; Termination: Wraparound; RoHS Compliant: Yes; Reach SVHC Compliant: Yes; ComponentLink1URL: https://psearch.en.murata.com:443/inductor/product/DFE252012P-3R3M_.pdf?src-supplier=IHS+Markit; ComponentLink1Description: https://psearch.en.murata.com:443/inductor/product/DFE252012P-3R3M_.pdf?src-supplier=IHS+Markit; ComponentLink2URL: http://www.farnell.com/datasheets/2550137.pdf?src-supplier=Farnell; ComponentLink2Description: http://www.farnell.com/datasheets/2550137.pdf?src-supplier=Farnell; ComponentLink3URL: http://www.murata.com/~/media/webrenewal/products/inductor/chip/tokoproducts/wirewoundmetalalloychiptype/m_dfe252012p.ashx?src-supplier=Digikey; ComponentLink3Description: http://www.murata.com/~/media/webrenewal/products/inductor/chip/tokoproducts/wirewoundmetalalloychiptype/m_dfe252012p.ashx?src-supplier=Digikey; ComponentLink4URL: https://www.murata.com/~/media/webrenewal/products/inductor/chip/tokoproducts/wirewoundmetalalloychiptype/m_dfe252012p.ashx?src-supplier=Digikey; ComponentLink4Description: https://www.murata.com/~/media/webrenewal/products/inductor/chip/tokoproducts/wirewoundmetalalloychiptype/m_dfe252012p.ashx?src-supplier=Digikey; ComponentLink5URL: http://www.toko.co.jp/products/pdf/inductors/dfe252012p.pdf?src-supplier=Avnet; ComponentLink5Description: http://www.toko.co.jp/products/pdf/inductors/dfe252012p.pdf?src-supplier=Avnet; ComponentLink6URL: https://datasheet.octopart.com/DFE252012P-3R3M%3DP2-Murata-datasheet-44382719.pdf?src-supplier=Future+Electronics; ComponentLink6Description: https://datasheet.octopart.com/DFE252012P-3R3M%3DP2-Murata-datasheet-44382719.pdf?src-supplier=Future+Electronics; ComponentLink7URL: https://datasheet.octopart.com/DFE252012P-3R3M%3DP2-Murata-datasheet-142219488.pdf?src-supplier=Arrow.cn; ComponentLink7Description: https://datasheet.octopart.com/DFE252012P-3R3M%3DP2-Murata-datasheet-142219488.pdf?src-supplier=Arrow.cn
footprint L_1008
pins: 1, 2

## L_6u8
designator L?, comment 6u8
General Purpose Inductor, 6.8uH, 20%, 1 Element, Ferrite-Core, SMD, 2424; Manufacturer: TDK; Manufacturer Part Number: VLS6045EX-6R8M; Case/Size Code: 2424; DC Resistance (DCR): 36mR; Inductor Application: POWER INDUCTOR; Channels: 1; Max Current Rating: 3.6A; Shape/Size Description: RECTANGULAR PACKAGE; Shielding: Shielded; Test Frequency: 100kHz; Package Height: 4.5mm; Package Length: 6mm; Supplier: Digikey; Supplier Part Number: 445-173057-1-ND; RoHS: Yes; Category: Fixed Inductors; Stock: 244338; Pricing: 1=0.35, 10=0.289, 100=0.238 (USD); Pins: 2; Core Material: Ferrite; Min Operating Temperature: -40°C; Max Operating Temperature: 105°C; Tolerance: 20%; Construction: Rectangular; Inductance-Nom (L): 6.8uH; Inductor Type: GENERAL PURPOSE INDUCTOR; Package Style: SMTMeter; Packaging: Tape and Reel; Surface Mount: Yes; Terminal Placement: Dual Ended; Termination: One Surface; Package Width: 6mm; Reach SVHC Compliant: Yes; RoHS Compliant: Yes; ComponentLink1URL: https://datasheet.ciiva.com:443/pdfs/VipMasterIC/IC/TDKC/TDKC-S-A0006138306/TDKC-S-A0006138306-1.pdf?src-supplier=IHS+Markit; ComponentLink1Description: https://datasheet.ciiva.com:443/pdfs/VipMasterIC/IC/TDKC/TDKC-S-A0006138306/TDKC-S-A0006138306-1.pdf?src-supplier=IHS+Markit; ComponentLink2URL: https://media.digikey.com/pdf/Data%20Sheets/TDK%20PDFs/VLS-EX_Series_Br.pdf?src-supplier=Digikey; ComponentLink2Description: https://media.digikey.com/pdf/Data%20Sheets/TDK%20PDFs/VLS-EX_Series_Br.pdf?src-supplier=Digikey; ComponentLink3URL: http://www.farnell.com/datasheets/2724083.pdf?src-supplier=Farnell; ComponentLink3Description: http://www.farnell.com/datasheets/2724083.pdf?src-supplier=Farnell; ComponentLink4URL: https://datasheet.octopart.com/VLS6045EX-6R8M-TDK-datasheet-82987839.pdf?src-supplier=Newark; ComponentLink4Description: https://datasheet.octopart.com/VLS6045EX-6R8M-TDK-datasheet-82987839.pdf?src-supplier=Newark; ComponentLink5URL: http://www.farnell.com/datasheets/1951810.pdf?src-supplier=Element14; ComponentLink5Description: http://www.farnell.com/datasheets/1951810.pdf?src-supplier=Element14; ComponentLink6URL: https://datasheet.octopart.com/VLS6045EX-6R8M-TDK-datasheet-60278255.pdf?src-supplier=Future+Electronics; ComponentLink6Description: https://datasheet.octopart.com/VLS6045EX-6R8M-TDK-datasheet-60278255.pdf?src-supplier=Future+Electronics
footprint L_6mmx6mm
pins: 1, 2

## LED_BLU
designator LED?, comment 150120BS75000  (value not drawn)
Single Color LED, Blue, Water Clear, 2mm; Manufacturer: Wurth Electronics; Shape: Rectangular; Forward Current: 30mA; Luminous Intensity-Nom: 145mcd; Channels: 1; Viewing Angle: 140°; Overall Height: 0.68mm; Supplier: Digikey; Supplier Part Number: 732-4989-1-ND; Manufacturer Part Number: 150120BS75000; RoHS: Yes; Category: LEDs; Stock: 3836; Pricing: 1=0.22, 50=0.211, 100=0.182, 500=0.158 (USD); Mounting Technology: Surface Mount; Pins: 2; Color: Blue; Min Operating Temperature: -40°C; Max Operating Temperature: 85°C; Lens Style: WATER CLEAR; Optoelectronic Device Type: SINGLE COLOR LED; Packaging: Tape and Reel; Size: 2mm; Terminal Pitch: 3mm; Reach SVHC Compliant: Yes; RoHS Compliant: Yes; ComponentLink1URL: https://datasheet.ciiva.com:443/pdfs/VipMasterIC/IC/MIDC/MIDC-S-A0007455946/MIDC-S-A0007455946-1.pdf?src-supplier=IHS+Markit; ComponentLink1Description: https://datasheet.ciiva.com:443/pdfs/VipMasterIC/IC/MIDC/MIDC-S-A0007455946/MIDC-S-A0007455946-1.pdf?src-supplier=IHS+Markit; ComponentLink2URL: https://datasheet.ciiva.com/22656/150120bs75000-22656976.pdf?src-supplier=Element14; ComponentLink2Description: https://datasheet.ciiva.com/22656/150120bs75000-22656976.pdf?src-supplier=Element14; ComponentLink3URL: https://datasheet.ciiva.com/29279/759440-da-01-en-chipled-1206-w-kl-blau-150120bs75000-29279045.pdf?src-supplier=Conrad; ComponentLink3Description: https://datasheet.ciiva.com/29279/759440-da-01-en-chipled-1206-w-kl-blau-150120bs75000-29279045.pdf?src-supplier=Conrad; ComponentLink4URL: https://datasheet.ciiva.com/29561/150120bs75000-29561882.pdf?src-supplier=Digikey; ComponentLink4Description: https://datasheet.ciiva.com/29561/150120bs75000-29561882.pdf?src-supplier=Digikey
footprint LED_1206 (SMD Mono-color Chip LED, body 3.2x1.6mm)
pins: 1 K, 2 A